# Altium footprint library Agilent LED Display 7-Segment, 1-Digit.PcbLib: 25 footprints (part 2 of 2)
Each footprint in its own frame and in the unit in brackets; x right, y up, seen from the top. Pads: shape width x height; smd on the part's side, far side on the other; paste and mask are expansions set on the pad; w line width, h text height; cw(c..) or ccw(c..) is an arc to the next point about the centre after c.
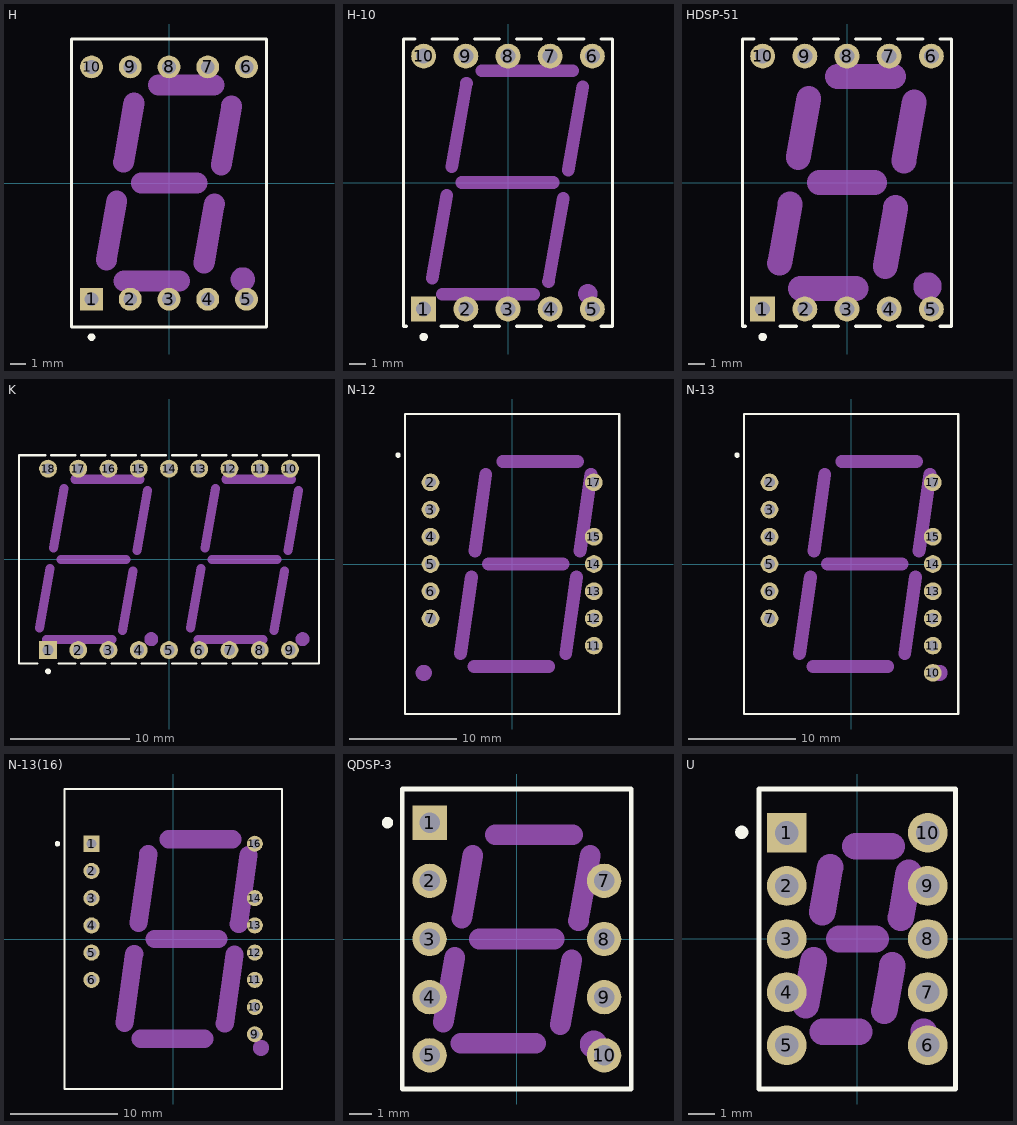
[diagram p1: the footprints below, top view; thin cyan lines are the x and y axes]

## H [mm] "LED, 7-Segment Display, 14.2 mm, RHD; 10 Leads; Row Space 15.24 mm; Pitch 2.54 mm"
height 8.25
pads (10):
  rect 1.5x1.5 hole 0.9: 1(-5.08,-7.62)
  round 1.5 hole 0.9: 2(-2.54,-7.62) 3(0,-7.62) 4(2.54,-7.62) 5(5.08,-7.62) 6(5.08,7.62) 7(2.54,7.62) 8(0,7.62) 9(-2.54,7.62) 10(-5.08,7.62)
Top Overlay:
  circle w0.25: c-5.08,-10.1 r0.125
  lines w0.2: -6.4,-9.45 6.4,-9.45 6.4,9.45 -6.4,9.45 -6.4,-9.45
Mechanical 1:
  circle w1: c4.842,-6.316 r0.296
  lines w1.37: -4.108,-5.054 -3.425,-1.17 ; -2.974,1.368 -2.293,5.255 ; -2.958,-6.429 0.692,-6.426 ; -1.821,0 1.828,0 ; -0.689,6.425 2.96,6.425 ; 2.295,-5.256 2.98,-1.371 ; 3.427,1.169 4.11,5.058

## H-10 [mm] "LED, 7-Segment Display, 14.22 mm, RHD; 10 Leads; Row Space 15.24 mm; Pitch 2.54 mm"
height 8.25
pads (10):
  rect 1.5x1.5 hole 0.9: 1(-5.08,-7.62)
  round 1.5 hole 0.9: 2(-2.54,-7.62) 3(0,-7.62) 4(2.54,-7.62) 5(5.08,-7.62) 6(5.08,7.62) 7(2.54,7.62) 8(0,7.62) 9(-2.54,7.62) 10(-5.08,7.62)
Top Overlay:
  circle w0.25: c-5.08,-9.3 r0.125
  lines w0.2: -6.12,-8.65 -6.3,-8.65 -6.3,8.65 -5.6,8.65 ; -4.56,8.65 -3.06,8.65 ; -4.04,-8.65 -3.06,-8.65 ; -2.02,-8.65 -0.52,-8.65 ; -2.02,8.65 -0.52,8.65 ; 0.52,-8.65 2.02,-8.65 ; 0.52,8.65 2.02,8.65 ; 3.06,-8.65 4.56,-8.65 ; 3.06,8.65 4.56,8.65 ; 5.6,-8.65 6.3,-8.65 6.3,8.65 5.6,8.65
Mechanical 1:
  circle w0.86: c4.81,-6.7 r0.15
  lines w0.762: -4.57,-5.76 -3.69,-0.77 ; -3.97,-6.729 1.54,-6.729 ; -3.386,0.961 -2.5,5.98 ; -2.78,0 2.72,0 ; -1.58,6.729 3.91,6.729 ; 2.44,-5.96 3.32,-0.96 ; 3.63,0.76 4.51,5.78

## HDSP-51 [mm] "LED, 7-Segment Display, 14.27 mm, RHD; 10 Leads; Row Space 15.24 mm; Pitch 2.54 mm"
height 8.3
pads (10):
  rect 1.5x1.5 hole 0.9: 1(-5.08,-7.62)
  round 1.5 hole 0.9: 2(-2.54,-7.62) 3(0,-7.62) 4(2.54,-7.62) 5(5.08,-7.62) 6(5.08,7.62) 7(2.54,7.62) 8(0,7.62) 9(-2.54,7.62) 10(-5.08,7.62)
Top Overlay:
  circle w0.25: c-5.08,-9.3 r0.125
  lines w0.2: -6.12,-8.65 -6.3,-8.65 -6.3,8.65 -5.6,8.65 ; -4.56,8.65 -3.06,8.65 ; -4.04,-8.65 -3.06,-8.65 ; -2.02,-8.65 -0.52,-8.65 ; -2.02,8.65 -0.52,8.65 ; 0.52,-8.65 2.02,-8.65 ; 0.52,8.65 2.02,8.65 ; 3.06,-8.65 4.56,-8.65 ; 3.06,8.65 4.56,8.65 ; 5.6,-8.65 6.3,-8.65 6.3,8.65 5.6,8.65
Mechanical 1:
  circle w1.1: c4.85,-6.258 r0.3
  lines w1.5: -4.055,-4.86 -3.429,-1.303 ; -2.934,1.506 -2.307,5.056 ; -2.805,-6.385 0.545,-6.385 ; -1.674,0 1.674,0 ; -0.564,6.385 2.796,6.385 ; 2.307,-5.057 2.933,-1.498 ; 3.427,1.303 4.054,4.857

## K [mm] "LED, 7-Segment Display, 14.22 mm, Dual Digit; 18 Leads; Row Space 15.24 mm; Pitch 2.54 mm"
height 8.25
pads (18):
  rect 1.5x1.5 hole 0.9: 1(-10.16,-7.62)
  round 1.5 hole 0.9: 2(-7.62,-7.62) 3(-5.08,-7.62) 4(-2.54,-7.62) 5(0,-7.62) 6(2.54,-7.62) 7(5.08,-7.62) 8(7.62,-7.62) 9(10.16,-7.62) 10(10.16,7.62) 11(7.62,7.62) 12(5.08,7.62) 13(2.54,7.62) 14(0,7.62) 15(-2.54,7.62) 16(-5.08,7.62) 17(-7.62,7.62) 18(-10.16,7.62)
Top Overlay:
  circle w0.25: c-10.16,-9.4 r0.125
  lines w0.2: -11.06,-8.75 -12.6,-8.75 -12.6,8.75 -10.41,8.75 ; -9.91,8.75 -7.87,8.75 ; -9.26,-8.75 -7.87,-8.75 ; -7.37,-8.75 -5.33,-8.75 ; -7.37,8.75 -5.33,8.75 ; -4.83,-8.75 -2.79,-8.75 ; -4.83,8.75 -2.79,8.75 ; -2.29,-8.75 -0.25,-8.75 ; -2.29,8.75 -0.25,8.75 ; 0.25,-8.75 2.29,-8.75 ; 0.25,8.75 2.29,8.75 ; 2.79,-8.75 4.83,-8.75 ; 2.79,8.75 4.83,8.75 ; 5.33,-8.75 7.37,-8.75 ; 5.33,8.75 7.37,8.75 ; 7.87,-8.75 9.91,-8.75 ; 7.87,8.75 9.91,8.75 ; 10.41,-8.75 12.6,-8.75 12.6,8.75 10.41,8.75
Mechanical 1:
  circle w0.86: c-1.49,-6.7 r0.15
  circle w0.86: c11.21,-6.7 r0.15
  lines w0.762: -10.88,-5.77 -10,-0.76 ; -10.28,-6.73 -4.8,-6.73 ; -9.69,0.97 -8.81,5.97 ; -9.09,0 -3.61,0 ; -7.9,6.73 -2.42,6.73 ; -3.89,-5.97 -3.01,-0.96 ; -2.7,0.76 -1.82,5.77 ; 1.82,-5.77 2.7,-0.76 ; 2.42,-6.73 7.9,-6.73 ; 3.01,0.97 3.89,5.97 ; 3.61,0 9.09,0 ; 4.8,6.73 10.28,6.73 ; 8.81,-5.97 9.69,-0.96 ; 10,0.76 10.88,5.77

## N-12 [mm] "LED, 7-Segment Display, 20.32 mm, LHD; 18 Leads (6 Absent); Row Space 15.24 mm; Pitch 2.54 mm"
height 8.64
pads (12):
  round 1.65 hole 1: 2(-7.62,7.62) 3(-7.62,5.08) 4(-7.62,2.54) 5(-7.62,0) 6(-7.62,-2.54) 7(-7.62,-5.08) 11(7.62,-7.62) 12(7.62,-5.08) 13(7.62,-2.54) 14(7.62,0) 15(7.62,2.54) 17(7.62,7.62)
Top Overlay:
  circle w0.25: c-10.65,10.16 r0.125
  lines w0.2: -10,-14 -10,14 10,14 10,-14 -10,-14
Mechanical 1:
  circle w1.2: c-8.25,-10.16 r0.15
  lines w1.2: -4.81,-8.36 -3.8,-1.2 ; -3.57,-9.56 3.42,-9.56 ; -3.47,1.2 -2.46,8.38 ; -2.22,0 4.76,0 ; -0.88,9.56 6.11,9.56 ; 5,-8.36 6,-1.2 ; 6.34,1.2 7.35,8.37

## N-13 [mm] "LED, 7-Segment Display, 20.32 mm, RHD; 18 Leads (5 Absent); Row Space 15.24 mm; Pitch 2.54 mm"
height 8.64
pads (13):
  round 1.65 hole 1: 2(-7.62,7.62) 3(-7.62,5.08) 4(-7.62,2.54) 5(-7.62,0) 6(-7.62,-2.54) 7(-7.62,-5.08) 10(7.62,-10.16) 11(7.62,-7.62) 12(7.62,-5.08) 13(7.62,-2.54) 14(7.62,0) 15(7.62,2.54) 17(7.62,7.62)
Top Overlay:
  circle w0.25: c-10.65,10.16 r0.125
  lines w0.2: -10,-14 -10,14 10,14 10,-14 -10,-14
Mechanical 1:
  circle w1.2: c8.25,-10.16 r0.15
  lines w1.2: -4.81,-8.36 -3.8,-1.2 ; -3.57,-9.56 3.42,-9.56 ; -3.47,1.2 -2.46,8.38 ; -2.22,0 4.76,0 ; -0.88,9.56 6.11,9.56 ; 5,-8.36 6,-1.2 ; 6.34,1.2 7.35,8.37

## N-13(16) [mm] "LED, 7-Segment Display, 20.32 mm, RHD; 16 Leads (3 Absent); Row Space 15.24 mm; Pitch 2.54 mm"
height 8.64
pads (13):
  rect 1.5x1.5 hole 0.9: 1(-7.62,8.89)
  round 1.5 hole 0.9: 2(-7.62,6.35) 3(-7.62,3.81) 4(-7.62,1.27) 5(-7.62,-1.27) 6(-7.62,-3.81) 9(7.62,-8.89) 10(7.62,-6.35) 11(7.62,-3.81) 12(7.62,-1.27) 13(7.62,1.27) 14(7.62,3.81) 16(7.62,8.89)
Top Overlay:
  circle w0.25: c-10.8,8.89 r0.125
  lines w0.2: -10.15,-14 -10.15,14 10.15,14 10.15,-14 -10.15,-14
Mechanical 1:
  circle w1.2: c8.2,-10.16 r0.15
  lines w1.7: -4.535,-7.824 -3.634,-1.398 ; -3.227,1.485 -2.322,7.91 ; -3.023,-9.311 2.907,-9.307 ; -1.716,0 4.216,0 ; -0.404,9.31 5.524,9.31 ; 4.821,-7.9 5.728,-1.478 ; 6.132,1.404 7.038,7.827

## QDSP-3 [mm] "LED, 7-Segment Display, 10 mm, RHD; 10 Leads (1 Absent); Row Space 7.62 mm; Pitch 2.54 mm"
height 7.25
pads (9):
  rect 1.5x1.5 hole 0.9: 1(-3.81,5.08)
  round 1.5 hole 0.9: 2(-3.81,2.54) 3(-3.81,0) 4(-3.81,-2.54) 5(-3.81,-5.08) 7(3.81,2.54) 8(3.81,0) 9(3.81,-2.54) 10(3.81,-5.08)
Top Overlay:
  circle w0.25: c-5.65,5.08 r0.125
  lines w0.2: -5,-6.55 -5,6.55 5,6.55 5,-6.55 -5,-6.55
Mechanical 1:
  circle w0.86: c3.35,-4.6 r0.17
  lines w0.9: -3.21,-3.64 -2.71,-0.8 ; -2.45,-4.55 0.83,-4.55 ; -2.4,0.9 -1.92,3.65 ; -1.65,0 1.63,0 ; -0.95,4.55 2.44,4.55 ; 1.89,-3.75 2.4,-0.9 ; 2.69,0.8 3.2,3.65

## U [mm] "LED, 7-Segment Display, 8 mm, RHD; 10 Leads; Row Space 5.31 mm; Pitch 2.01 mm"
height 5.26
pads (10):
  rect 1.5x1.5 hole 0.9: 1(-2.655,4)
  round 1.5 hole 0.9: 2(-2.655,2) 3(-2.655,0) 4(-2.655,-2) 5(-2.655,-4) 6(2.655,-4) 7(2.655,-2) 8(2.655,0) 9(2.655,2) 10(2.655,4)
Top Overlay:
  circle w0.25: c-4.35,4.02 r0.125
  lines w0.2: -3.7,-5.65 3.7,-5.65 3.7,5.65 -0.635,5.65 -3.7,5.65 -3.7,-5.65
Mechanical 1:
  circle w0.75: c2.5,-3.5 r0.13
  lines w1: -1.939,-2.497 -1.642,-0.801 ; -1.322,1.002 -1.024,2.699 ; -1.302,-3.5 0.066,-3.5 ; -0.685,0 0.686,0 ; -0.067,3.5 1.303,3.5 ; 1.024,-2.699 1.324,-0.999 ; 1.641,0.802 1.938,2.5